# EAGLE library part H-BRIDGE (library ME433-2021)
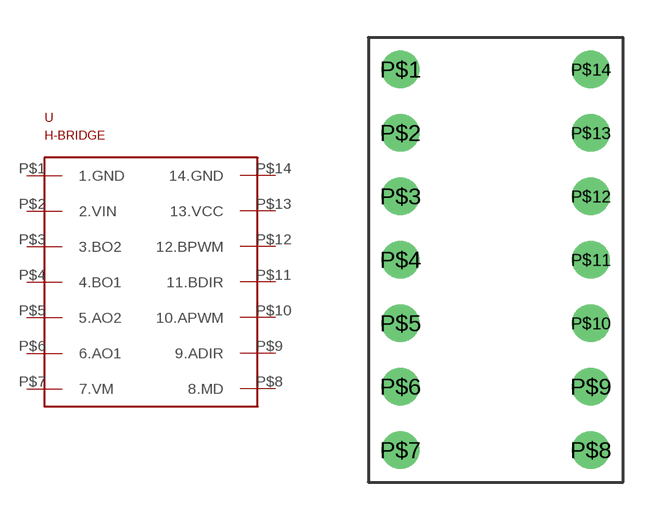
[diagram p8: symbol with the pads of H-BRIDGE; footprint H-BRIDGE]

Designator prefix -

## H-BRIDGE  [H-BRIDGE]
P$1  1.GND
P$2  2.VIN
P$3  3.BO2
P$4  4.BO1
P$5  5.AO2
P$6  6.AO1
P$7  7.VM
P$8  8.MD
P$9  9.ADIR
P$10  10.APWM
P$11  11.BDIR
P$12  12.BPWM
P$13  13.VCC
P$14  14.GND

## Footprint H-BRIDGE (pad centres in mm)
drill 1 pad 1.02: P$1 -3.81,7.62; P$2 -3.81,5.08; P$3 -3.81,2.54; P$4 -3.81,0; P$5 -3.81,-2.54; P$6 -3.81,-5.08; P$7 -3.81,-7.62; P$8 3.81,-7.62; P$9 3.81,-5.08; P$10 3.81,-2.54; P$11 3.81,0; P$12 3.81,2.54; P$13 3.81,5.08; P$14 3.81,7.62